# EAGLE library part VS1000 (library IC)
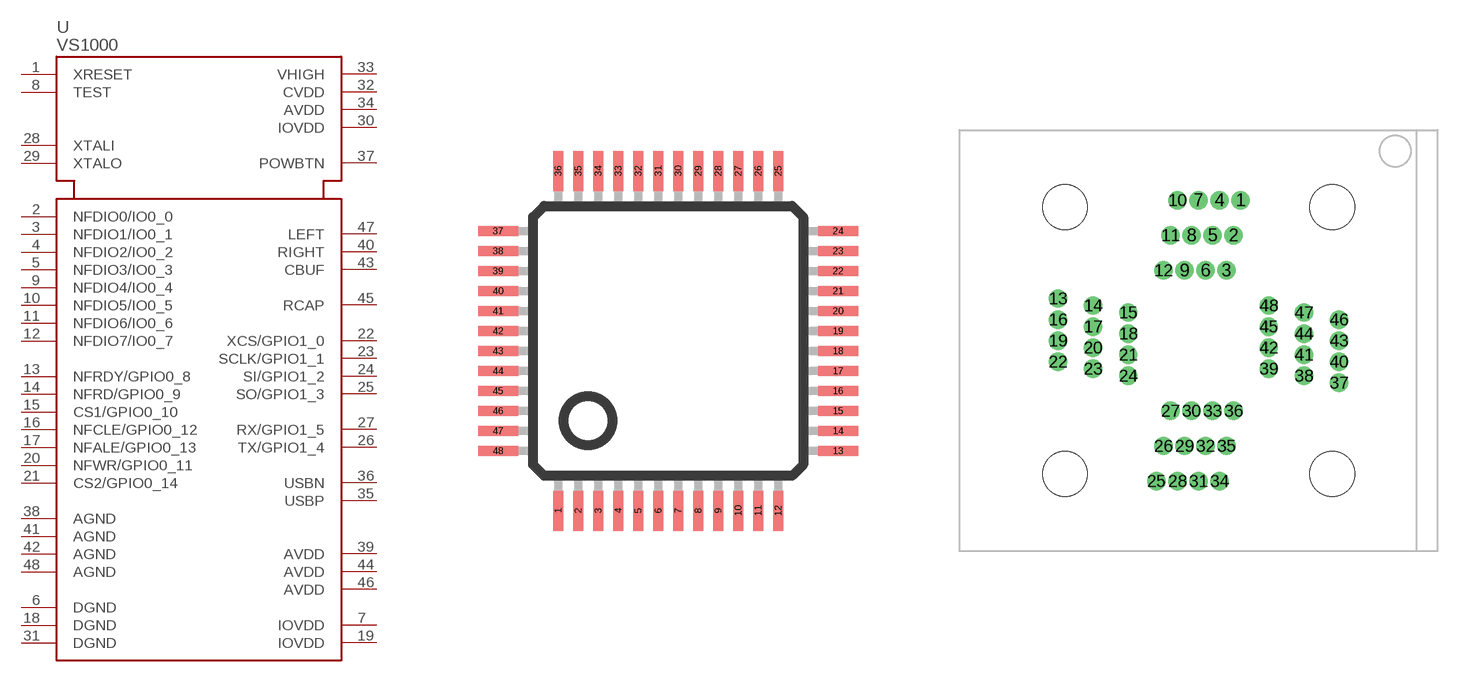
[diagram p146: symbol with the pads of LQFP48; footprints LQFP48, QFP48-SOCKET]

Designator prefix U

## VS1000-L  [LQFP48]
1  XRESET  in
2  NFDIO0/IO0_0
3  NFDIO1/IO0_1
4  NFDIO2/IO0_2
5  NFDIO3/IO0_3
6  DGND  pas
7  IOVDD  pwr
8  TEST  in
9  NFDIO4/IO0_4
10  NFDIO5/IO0_5
11  NFDIO6/IO0_6
12  NFDIO7/IO0_7
13  NFRDY/GPIO0_8
14  NFRD/GPIO0_9
15  CS1/GPIO0_10
16  NFCLE/GPIO0_12
17  NFALE/GPIO0_13
18  DGND  pas
19  IOVDD  pwr
20  NFWR/GPIO0_11
21  CS2/GPIO0_14
22  XCS/GPIO1_0
23  SCLK/GPIO1_1
24  SI/GPIO1_2
25  SO/GPIO1_3
26  TX/GPIO1_4
27  RX/GPIO1_5
28  XTALI  in
29  XTALO  out
30  IOVDD  pwr
31  DGND  pas
32  CVDD  pwr
33  VHIGH  pwr
34  AVDD  pwr
35  USBP
36  USBN
37  POWBTN
38  AGND  pas
39  AVDD  pwr
40  RIGHT  out
41  AGND  pas
42  AGND  pas
43  CBUF  out
44  AVDD  pwr
45  RCAP
46  AVDD  pwr
47  LEFT  out
48  AGND  pas

## VS1000-SOCKET  [QFP48-SOCKET]
Pads as for LQFP48

## Footprint LQFP48 (pad centres in mm)
48-pin plastic LQFP (FPT-48P-M26) www.fma.fujitsu.com/pdf/e713717.pdf
smd 0.25 x 1: 1 -2.75,-4.25; 2 -2.25,-4.25; 3 -1.75,-4.25; 4 -1.25,-4.25; 5 -0.75,-4.25; 6 -0.25,-4.25; 7 0.25,-4.25; 8 0.75,-4.25; 9 1.25,-4.25; 10 1.75,-4.25; 11 2.25,-4.25; 12 2.75,-4.25; 25 2.75,4.25; 26 2.25,4.25; 27 1.75,4.25; 28 1.25,4.25; 29 0.75,4.25; 30 0.25,4.25; 31 -0.25,4.25; 32 -0.75,4.25; 33 -1.25,4.25; 34 -1.75,4.25; 35 -2.25,4.25; 36 -2.75,4.25
smd 1 x 0.25: 13 4.25,-2.75; 14 4.25,-2.25; 15 4.25,-1.75; 16 4.25,-1.25; 17 4.25,-0.75; 18 4.25,-0.25; 19 4.25,0.25; 20 4.25,0.75; 21 4.25,1.25; 22 4.25,1.75; 23 4.25,2.25; 24 4.25,2.75; 37 -4.25,2.75; 38 -4.25,2.25; 39 -4.25,1.75; 40 -4.25,1.25; 41 -4.25,0.75; 42 -4.25,0.25; 43 -4.25,-0.25; 44 -4.25,-0.75; 45 -4.25,-1.25; 46 -4.25,-1.75; 47 -4.25,-2.25; 48 -4.25,-2.75

## Footprint QFP48-SOCKET (pad centres in mm)
drill 0.8: 1 3,10; 2 2.5,7.5; 3 2,5; 4 1.5,10; 5 1,7.5; 6 0.5,5; 7 0,10; 8 -0.5,7.5; 9 -1,5; 10 -1.5,10; 11 -2,7.5; 12 -2.5,5; 13 -10,3; 14 -7.5,2.5; 15 -5,2; 16 -10,1.5; 17 -7.5,1; 18 -5,0.5; 19 -10,0; 20 -7.5,-0.5; 21 -5,-1; 22 -10,-1.5; 23 -7.5,-2; 24 -5,-2.5; 25 -3,-10; 26 -2.5,-7.5; 27 -2,-5; 28 -1.5,-10; 29 -1,-7.5; 30 -0.5,-5; 31 0,-10; 32 0.5,-7.5; 33 1,-5; 34 1.5,-10; 35 2,-7.5; 36 2.5,-5; 37 10,-3; 38 7.5,-2.5; 39 5,-2; 40 10,-1.5; 41 7.5,-1; 42 5,-0.5; 43 10,0; 44 7.5,0.5; 45 5,1; 46 10,1.5; 47 7.5,2; 48 5,2.5
hole 3.2 at 9.5,9.5
hole 3.2 at 9.5,-9.5
hole 3.2 at -9.5,-9.5
hole 3.2 at -9.5,9.5